# Altium footprint library L0805.PcbLib: 1 footprints
Each footprint in its own frame and in the unit in brackets; x right, y up, seen from the top. Pads: shape width x height; smd on the part's side, far side on the other; paste and mask are expansions set on the pad; w line width, h text height; cw(c..) or ccw(c..) is an arc to the next point about the centre after c.
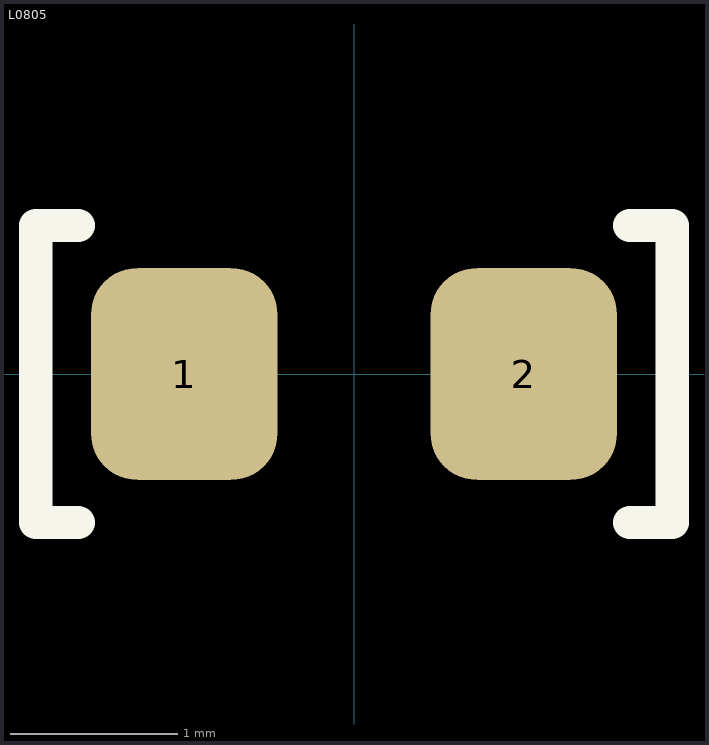
[diagram p0: the footprint, top view; thin cyan lines are the x and y axes]

## L0805 [mil]
height 55.12
pads (2):
  rrect50% 44x50 smd: 1(-40,0) 2(40,0)
Top Overlay:
  lines w7.87: -65,-35 -75,-35 -75,35 -65,35 ; 65,-35 75,-35 75,35 65,35
3D body: height 70.87, standoff -1.97, extent -39.37,-28.54 43.31,30.51